# EAGLE library part LM7705MM_NOPB (library LM7705MM_NOPB)
Low Noise Negative Bias Generator Source: Datasheet <http://www.ti.com/lit/gpn/LM7705>
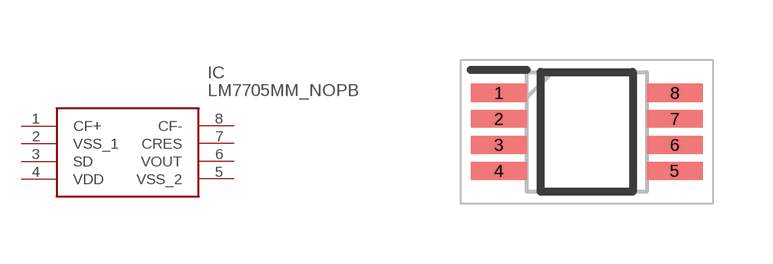
[diagram p0: symbol with the pads of SOP65P490X110-8N; footprint SOP65P490X110-8N]

Designator prefix IC

## LM7705MM_NOPB (Description: Low Noise Negative Bias Generator; Height: 1.1mm; Manufacturer_Name: Texas Instruments; Manufacturer_Part_Number: LM7705MM/NOPB; Mouser_Part_Number: 926-LM7705MM/NOPB; Mouser_Price-Stock: https://www.mouser.co.uk/ProductDetail/Texas-Instruments/LM7705MM-NOPB?qs=QbsRYf82W3EUoG7CCLtS5A%3D%3D)  [SOP65P490X110-8N]
1  CF+
2  VSS_1
3  SD
4  VDD
5  VSS_2
6  VOUT
7  CRES
8  CF-

## Footprint SOP65P490X110-8N (pad centres in mm)
DGK (S-PDSO-G8)
smd 1.4 x 0.45: 1 -2.2,0.975; 2 -2.2,0.325; 3 -2.2,-0.325; 4 -2.2,-0.975; 5 2.2,-0.975; 6 2.2,-0.325; 7 2.2,0.325; 8 2.2,0.975